# Altium footprint library OSC-QSMD3.2x2.5x1.0.PcbLib: 1 footprints
Each footprint in its own frame and in the unit in brackets; x right, y up, seen from the top. Pads: shape width x height; smd on the part's side, far side on the other; paste and mask are expansions set on the pad; w line width, h text height; cw(c..) or ccw(c..) is an arc to the next point about the centre after c.
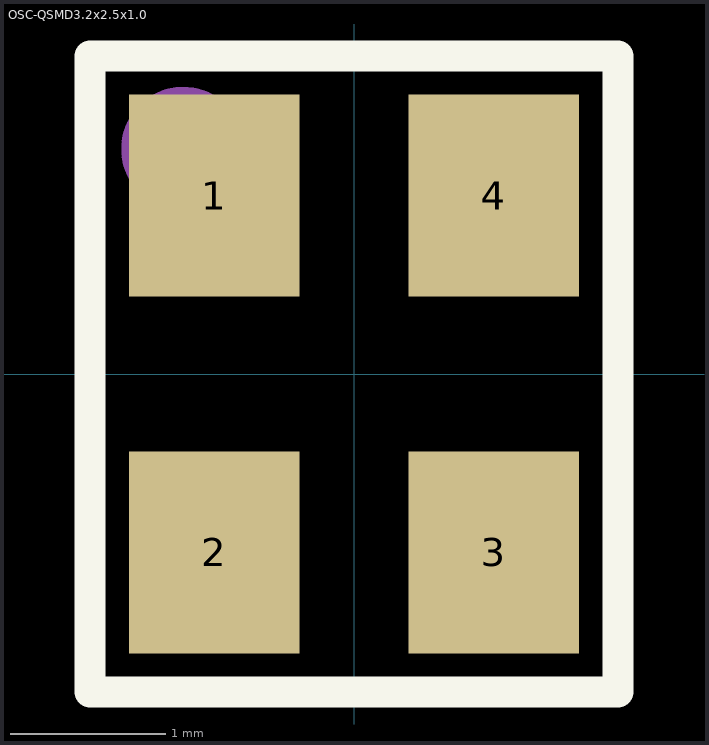
[diagram p0: the footprint, top view; thin cyan lines are the x and y axes]

## OSC-QSMD3.2x2.5x1.0 [mm]
pads (4):
  rect 1.1x1.3 smd paste+0 mask+0.05: 1(-0.9,1.15) 2(-0.9,-1.15) 3(0.9,-1.15) 4(0.9,1.15)
Top Overlay:
  lines w0.2: -1.7,-2.05 1.7,-2.05 1.7,2.05 -1.7,2.05 -1.7,-2.05
Top Assembly:
  circle w0.4: c-1.1,1.45 r0.2
  lines w0.1: -1.675,-2.025 -1.675,2.025 1.675,2.025 1.675,-2.025 -1.675,-2.025
  text "'.Designator'" at -3.965,-0.292 h0.7
3D body "ECS-TXO-3225-250-TR.STEP": height 1, standoff 0, extent -1.25,-1.6 1.25,1.6